# Altium schematic symbol library TSU111.Schlib: 1 symbol
Pins are listed as number, name and electrical type; pins without a type are passive.

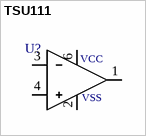
[diagram p0: symbol TSU111]

## TSU111
designator U?
TSU111 Op Amp, DFN package
pins: 1, 2, 3, 4, 6
text: VCC; VSS